# Altium schematic symbol library speaker.SchLib: 2 symbols
Pins are listed as number, name and electrical type; pins without a type are passive.

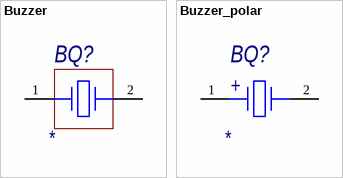
[diagram p0: symbols Buzzer to Buzzer_polar]

## Buzzer
designator BQ?
Name: *; Value: *
footprint HPS13C
pins: 1, 2

## Buzzer_polar
designator BQ?
Name: *; Value: *
footprint 12805
pins: 1, 2
text: +